# EAGLE library part TS884 (library ts884)
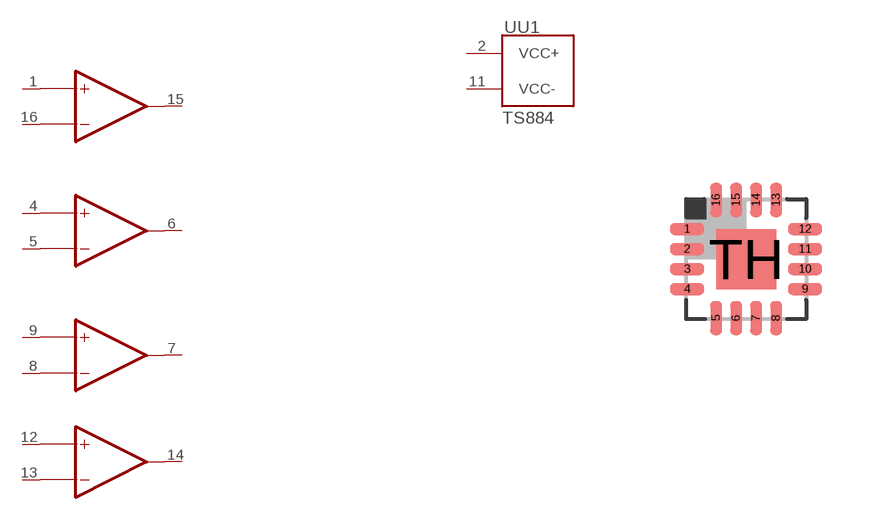
[diagram p2: symbol with the pads of QFN16; footprint QFN16]

Designator prefix -; gates U1=RAILS OP1=OPAMP OP2=OPAMP OP3=OPAMP OP4=OPAMP

## TS884  [QFN16]
1  OP1:IN+  in
2  U1:VCC+
4  OP2:IN+  in
5  OP2:IN-  in
6  OP2:OUT  out
7  OP3:OUT  out
8  OP3:IN-  in
9  OP3:IN+  in
11  U1:VCC-
12  OP4:IN+  in
13  OP4:IN-  in
14  OP4:OUT  out
15  OP1:OUT  out
16  OP1:IN-  in

## Footprint QFN16 (pad centres in mm)
RTE (S-PQFP-N16) 3x3 mm Source: www.ti.com .. tpa6132a2 direct path stereo $.65.pdf
smd 0.85 x 0.3: 1 -1.475,0.75; 2 -1.475,0.25; 3 -1.475,-0.25; 4 -1.475,-0.75; 9 1.475,-0.75; 10 1.475,-0.25; 11 1.475,0.25; 12 1.475,0.75
smd 0.3 x 0.85: 5 -0.75,-1.475; 6 -0.25,-1.475; 7 0.25,-1.475; 8 0.75,-1.475; 13 0.75,1.475; 14 0.25,1.475; 15 -0.25,1.475; 16 -0.75,1.475
smd 1.5 x 1.5: TH 0,0